# Altium schematic symbol library kmilo17pet-PIC16_Part2.SchLib: 1569 symbols (part 17 of 56)
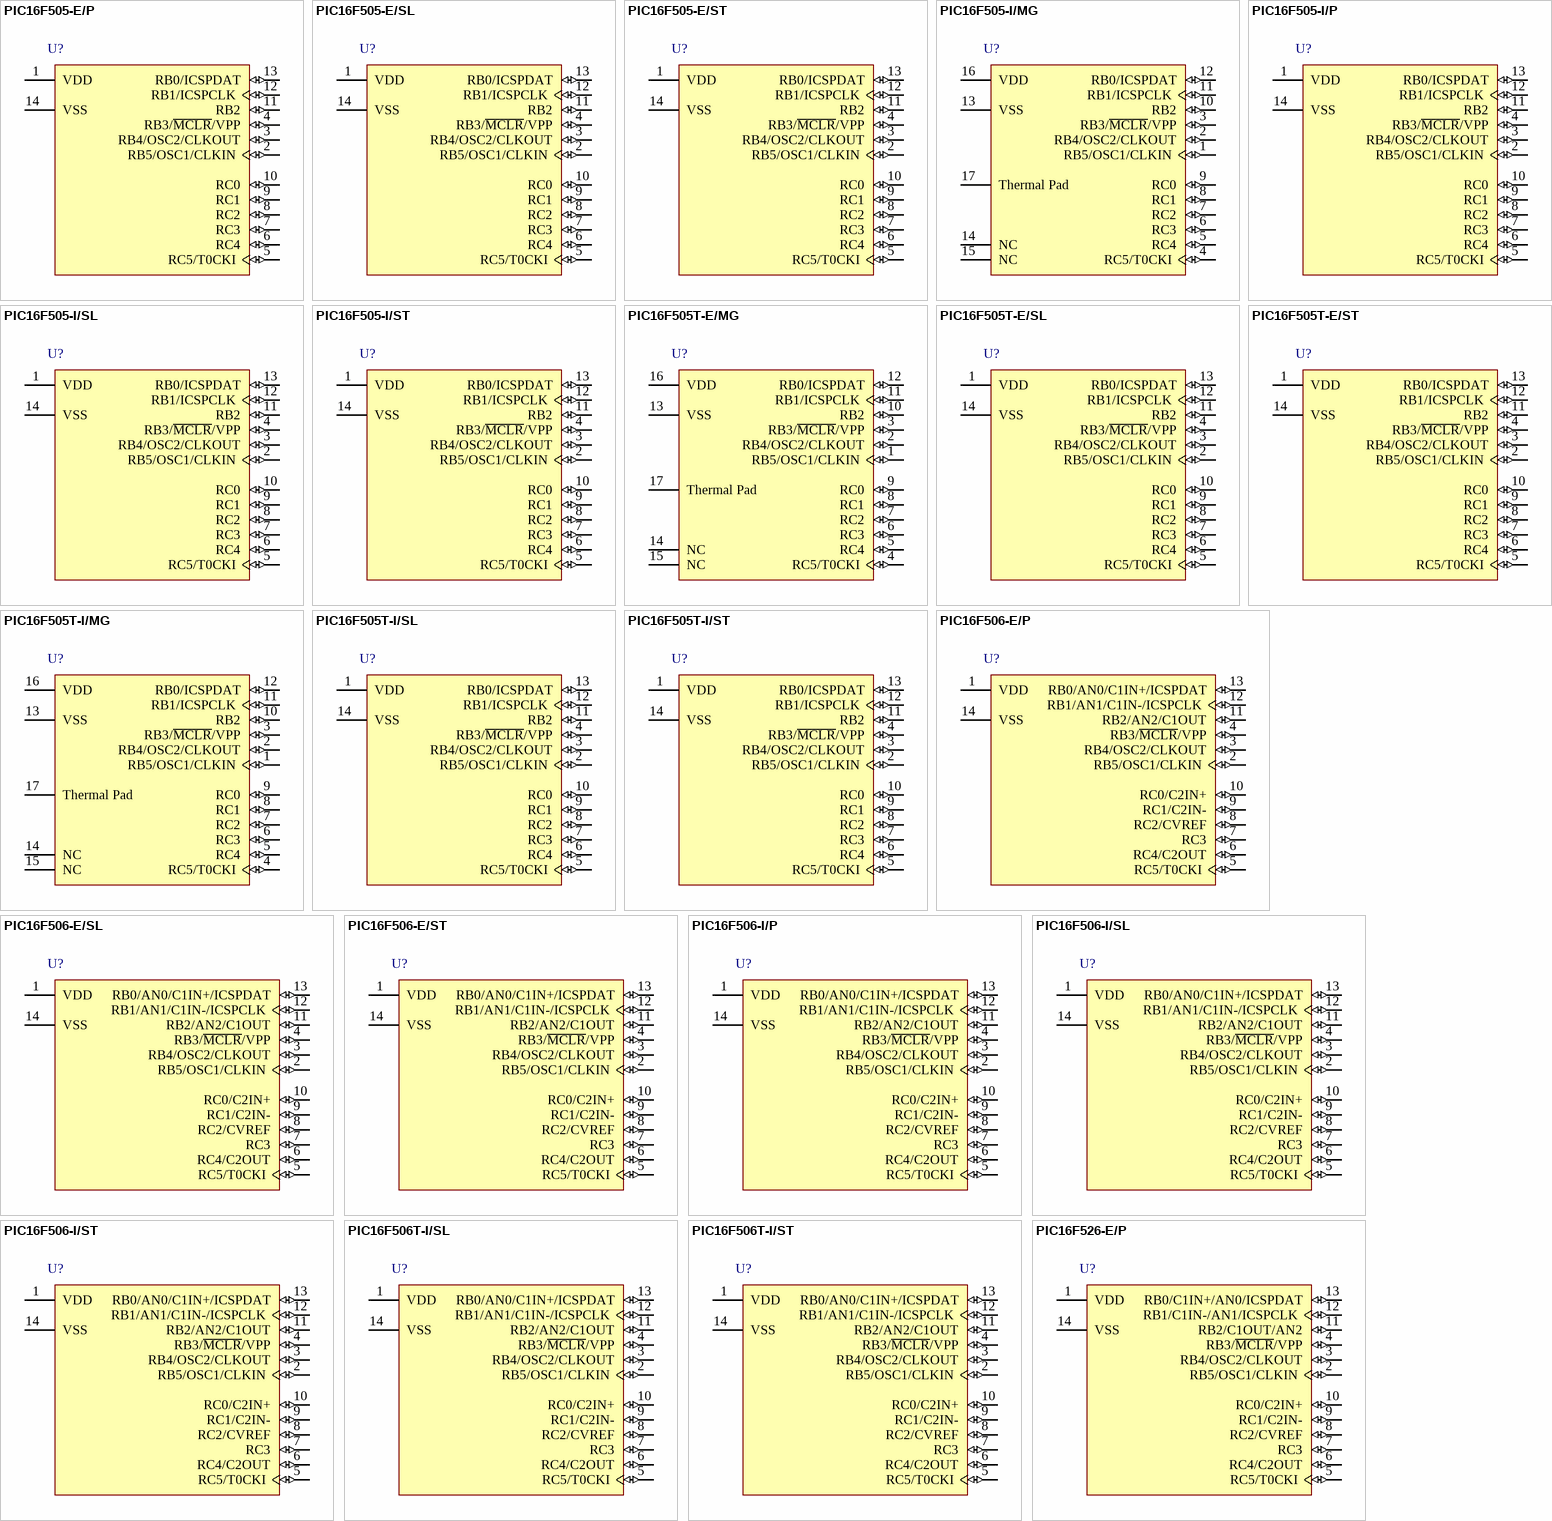
[diagram p141: symbols PIC16F505-E/P to PIC16F526-E/P]

## PIC16F505T-E/ST
designator U?
8-Bit Flash Microcontroller, 1K (x12-Bit words) Program Memory, 72 Bytes Data Memory, 11 I/O pins, 14-Pin TSSOP, Standard VDD Range, Extended Temperature, Tape and Reel; Manufacturer: Microchip; PartNumber: PIC16F505T-E/ST; DatasheetVersion: revE, Aug-2009; PackageVersion: revBB, Aug-2009; PackageReference: TSSOP-ST14; PackageDescription: 14-Lead Plastic Thin Shrink Small Outline (ST) - 4.4mm Body [TSSOP]; ComponentLink1Description: Manufacturer URL; ComponentLink1URL: http://www.microchip.com/; ComponentLink2Description: Datasheet; ComponentLink2URL: http://ww1.microchip.com/downloads/en/DeviceDoc/41236D.pdf; ComponentLink3Description: Package Specification; ComponentLink3URL: http://www.microchip.com/stellent/groups/techpub_sg/documents/packagingspec/en012702.pdf
footprint TSSOP-ST14_N (TSOP, 14-Leads, Body 5x4.4mm, Pitch 0.65mm, IPC Medium Density)
footprint TSSOP-ST14_L (TSOP, 14-Leads, Body 5x4.4mm, Pitch 0.65mm, IPC High Density)
footprint TSSOP-ST14_M (TSOP, 14-Leads, Body 5x4.4mm, Pitch 0.65mm, IPC Low Density)
pins: 1 VDD (power), 2 RB5/OSC1/CLKIN (io), 3 RB4/OSC2/CLKOUT (io), 4 RB3/~{MCLR}/VPP (io), 5 RC5/T0CKI (io), 6 RC4 (io), 7 RC3 (io), 8 RC2 (io), 9 RC1 (io), 10 RC0 (io), 11 RB2 (io), 12 RB1/ICSPCLK (io), 13 RB0/ICSPDAT (io), 14 VSS (power)

## PIC16F505T-I/MG
designator U?
8-Bit Flash Microcontroller, 1K (x12-Bit words) Program Memory, 72 Bytes Data Memory, 11 I/O pins, 14-Pin SOIC, Standard VDD Range, Industrial Temperature, Tape and Reel; Manufacturer: Microchip; PartNumber: PIC16F505T-I/MG; DatasheetVersion: revE, Aug-2009; PackageVersion: revBB, Aug-2009; PackageReference: QFN-MG16; PackageDescription: 16-Lead Plastic Quad Flat, No Lead Package (MG) - 3x3x0.9 mm Body [QFN]; Supplier 1: Digi-Key; Supplier Part Number 1: PIC16F505T-I/MG-ND; Supplier 2: Mouser; Supplier Part Number 2: 579-PIC16F505T-I/MG; ComponentLink1Description: Manufacturer URL; ComponentLink1URL: http://www.microchip.com/; ComponentLink2Description: Datasheet; ComponentLink2URL: http://ww1.microchip.com/downloads/en/DeviceDoc/41236E.pdf; ComponentLink3Description: Package Specification; ComponentLink3URL: http://www.microchip.com/stellent/groups/techpub_sg/documents/packagingspec/en012702.pdf
footprint QFN-MG16_N (QFN, 16-Leads, Body 3x3mm, Pitch 0.5mm, Thermal Pad 1.5x1.5mm, IPC Medium Density)
footprint QFN-MG16_L (QFN, 16-Leads, Body 3x3mm, Pitch 0.5mm, Thermal Pad 1.5x1.5mm, IPC High Density)
footprint QFN-MG16_M (QFN, 16-Leads, Body 3x3mm, Pitch 0.5mm, Thermal Pad 1.5x1.5mm, IPC Low Density)
pins: 1 RB5/OSC1/CLKIN (io), 2 RB4/OSC2/CLKOUT (io), 3 RB3/~{MCLR}/VPP (io), 4 RC5/T0CKI (io), 5 RC4 (io), 6 RC3 (io), 7 RC2 (io), 8 RC1 (io), 9 RC0 (io), 10 RB2 (io), 11 RB1/ICSPCLK (io), 12 RB0/ICSPDAT (io), 13 VSS (power), 14 NC, 15 NC, 16 VDD (power), 17 Thermal Pad

## PIC16F505T-I/SL
designator U?
8-Bit Flash Microcontroller, 1K (x12-Bit words) Program Memory, 72 Bytes Data Memory, 11 I/O pins, 14-Pin SOIC, Standard VDD Range, Industrial Temperature, Tape and Reel; Manufacturer: Microchip; PartNumber: PIC16F505T-I/SL; DatasheetVersion: revE, Aug-2009; PackageVersion: revBB, Aug-2009; PackageReference: SOIC-SL14; PackageDescription: 14-Lead Plastic Small Outline (SL) - Narrow, 3.90mm Body [SOIC]; Supplier 1: Digi-Key; Supplier Part Number 1: PIC16F505T-I/SLTR-ND; Supplier 2: Newark; Supplier Part Number 2: 89H0454; Supplier 3: Mouser; Supplier Part Number 3: 579-PIC16F505T-I/SL; Code_JEDEC: MS-012-AB; Code_IPC: SOIC127P600-14; ComponentLink1Description: Manufacturer URL; ComponentLink1URL: http://www.microchip.com/; ComponentLink2Description: Datasheet; ComponentLink2URL: http://ww1.microchip.com/downloads/en/DeviceDoc/41236D.pdf; ComponentLink3Description: Package Specification; ComponentLink3URL: http://www.microchip.com/stellent/groups/techpub_sg/documents/packagingspec/en012702.pdf
footprint SOIC-SL14_N (SOIC, 14-Leads, Body 8.7x3.9mm, Pitch 1.27mm, IPC Medium Density)
footprint SOIC-SL14_L (SOIC, 14-Leads, Body 8.7x3.9mm, Pitch 1.27mm, IPC High Density)
footprint SOIC-SL14_M (SOIC, 14-Leads, Body 8.7x3.9mm, Pitch 1.27mm, IPC Low Density)
pins: 1 VDD (power), 2 RB5/OSC1/CLKIN (io), 3 RB4/OSC2/CLKOUT (io), 4 RB3/~{MCLR}/VPP (io), 5 RC5/T0CKI (io), 6 RC4 (io), 7 RC3 (io), 8 RC2 (io), 9 RC1 (io), 10 RC0 (io), 11 RB2 (io), 12 RB1/ICSPCLK (io), 13 RB0/ICSPDAT (io), 14 VSS (power)

## PIC16F505T-I/ST
designator U?
8-Bit Flash Microcontroller, 1K (x12-Bit words) Program Memory, 72 Bytes Data Memory, 11 I/O pins, 14-Pin TSSOP, Standard VDD Range, Industrial Temperature, Tape and Reel; Manufacturer: Microchip; PartNumber: PIC16F505T-I/ST; DatasheetVersion: revE, Aug-2009; PackageVersion: revBB, Aug-2009; PackageReference: TSSOP-ST14; PackageDescription: 14-Lead Plastic Thin Shrink Small Outline (ST) - 4.4mm Body [TSSOP]; Supplier 1: Digi-Key; Supplier Part Number 1: PIC16F505T-I/ST-ND; Supplier 2: Mouser; Supplier Part Number 2: 579-PIC16F505T-I/ST; ComponentLink1Description: Manufacturer URL; ComponentLink1URL: http://www.microchip.com/; ComponentLink2Description: Datasheet; ComponentLink2URL: http://ww1.microchip.com/downloads/en/DeviceDoc/41236D.pdf; ComponentLink3Description: Package Specification; ComponentLink3URL: http://www.microchip.com/stellent/groups/techpub_sg/documents/packagingspec/en012702.pdf
footprint TSSOP-ST14_N (TSOP, 14-Leads, Body 5x4.4mm, Pitch 0.65mm, IPC Medium Density)
footprint TSSOP-ST14_L (TSOP, 14-Leads, Body 5x4.4mm, Pitch 0.65mm, IPC High Density)
footprint TSSOP-ST14_M (TSOP, 14-Leads, Body 5x4.4mm, Pitch 0.65mm, IPC Low Density)
pins: 1 VDD (power), 2 RB5/OSC1/CLKIN (io), 3 RB4/OSC2/CLKOUT (io), 4 RB3/~{MCLR}/VPP (io), 5 RC5/T0CKI (io), 6 RC4 (io), 7 RC3 (io), 8 RC2 (io), 9 RC1 (io), 10 RC0 (io), 11 RB2 (io), 12 RB1/ICSPCLK (io), 13 RB0/ICSPDAT (io), 14 VSS (power)

## PIC16F506-E/P
designator U?
8-Bit Flash Microcontroller, 1K (x14-Bit words) Program Memory, 67 Bytes Data Memory, 12 I/O pins, 14-Pin PDIP, Standard VDD Range, Extended Temperature; Manufacturer: Microchip; PartNumber: PIC16F506-E/P; DatasheetVersion: revD, Nov-2007; PackageVersion: revBB, Aug-2009; PackageReference: PDIP300-P14; PackageDescription: 14-Lead Plastic Dual In-Line (P) - 300 mil Body [PDIP]; Supplier 1: Digi-Key; Supplier Part Number 1: PIC16F506-E/P-ND; Supplier 2: Farnell; Supplier Part Number 2: 2318348; Supplier 3: Newark; Supplier Part Number 3: 71J7199; Supplier 4: Mouser; Supplier Part Number 4: 579-PIC16F506-E/P; ComponentLink1Description: Manufacturer URL; ComponentLink1URL: http://www.microchip.com/; ComponentLink2Description: Datasheet; ComponentLink2URL: http://ww1.microchip.com/downloads/en/DeviceDoc/41268D.pdf; ComponentLink3Description: Package Specification; ComponentLink3URL: http://www.microchip.com/stellent/groups/techpub_sg/documents/packagingspec/en012702.pdf
footprint PDIP300-P14 (DIP, 14-Leads, Row Spacing 7.62mm, Pitch 2.54mm, Body 19.2x6.6mm)
pins: 1 VDD (power), 2 RB5/OSC1/CLKIN (io), 3 RB4/OSC2/CLKOUT (io), 4 RB3/~{MCLR}/VPP (io), 5 RC5/T0CKI (io), 6 RC4/C2OUT (io), 7 RC3 (io), 8 RC2/CVREF (io), 9 RC1/C2IN- (io), 10 RC0/C2IN+ (io), 11 RB2/AN2/C1OUT (io), 12 RB1/AN1/C1IN-/ICSPCLK (io), 13 RB0/AN0/C1IN+/ICSPDAT (io), 14 VSS (power)

## PIC16F506-E/SL
designator U?
8-Bit Flash Microcontroller, 1K (x14-Bit words) Program Memory, 67 Bytes Data Memory, 12 I/O pins, 14-Pin SOIC, Standard VDD Range, Extended Temperature; Manufacturer: Microchip; PartNumber: PIC16F506-E/SL; DatasheetVersion: revD, Nov-2007; PackageVersion: revBB, Aug-2009; PackageReference: SOIC-SL14; PackageDescription: 14-Lead Plastic Small Outline (SL) - Narrow, 3.90mm Body [SOIC]; Supplier 1: Digi-Key; Supplier Part Number 1: PIC16F506-E/SL-ND; Supplier 2: Mouser; Supplier Part Number 2: 579-PIC16F506-E/SL; Code_JEDEC: MS-012-AB; Code_IPC: SOIC127P600-14; ComponentLink1Description: Manufacturer URL; ComponentLink1URL: http://www.microchip.com/; ComponentLink2Description: Datasheet; ComponentLink2URL: http://ww1.microchip.com/downloads/en/DeviceDoc/41268D.pdf; ComponentLink3Description: Package Specification; ComponentLink3URL: http://www.microchip.com/stellent/groups/techpub_sg/documents/packagingspec/en012702.pdf
footprint SOIC-SL14_N (SOIC, 14-Leads, Body 8.7x3.9mm, Pitch 1.27mm, IPC Medium Density)
footprint SOIC-SL14_L (SOIC, 14-Leads, Body 8.7x3.9mm, Pitch 1.27mm, IPC High Density)
footprint SOIC-SL14_M (SOIC, 14-Leads, Body 8.7x3.9mm, Pitch 1.27mm, IPC Low Density)
pins: 1 VDD (power), 2 RB5/OSC1/CLKIN (io), 3 RB4/OSC2/CLKOUT (io), 4 RB3/~{MCLR}/VPP (io), 5 RC5/T0CKI (io), 6 RC4/C2OUT (io), 7 RC3 (io), 8 RC2/CVREF (io), 9 RC1/C2IN- (io), 10 RC0/C2IN+ (io), 11 RB2/AN2/C1OUT (io), 12 RB1/AN1/C1IN-/ICSPCLK (io), 13 RB0/AN0/C1IN+/ICSPDAT (io), 14 VSS (power)

## PIC16F506-E/ST
designator U?
8-Bit Flash Microcontroller, 1K (x14-Bit words) Program Memory, 67 Bytes Data Memory, 12 I/O pins, 14-Pin TSSOP, Standard VDD Range, Extended Temperature; Manufacturer: Microchip; PartNumber: PIC16F506-E/ST; DatasheetVersion: revD, Nov-2007; PackageVersion: revBB, Aug-2009; PackageReference: TSSOP-ST14; PackageDescription: 14-Lead Plastic Thin Shrink Small Outline (ST) - 4.4mm Body [TSSOP]; Supplier 1: Digi-Key; Supplier Part Number 1: PIC16F506-E/ST-ND; Supplier 2: Mouser; Supplier Part Number 2: 579-PIC16F506-E/ST; ComponentLink1Description: Manufacturer URL; ComponentLink1URL: http://www.microchip.com/; ComponentLink2Description: Datasheet; ComponentLink2URL: http://ww1.microchip.com/downloads/en/DeviceDoc/41268D.pdf; ComponentLink3Description: Package Specification; ComponentLink3URL: http://www.microchip.com/stellent/groups/techpub_sg/documents/packagingspec/en012702.pdf
footprint TSSOP-ST14_N (TSOP, 14-Leads, Body 5x4.4mm, Pitch 0.65mm, IPC Medium Density)
footprint TSSOP-ST14_L (TSOP, 14-Leads, Body 5x4.4mm, Pitch 0.65mm, IPC High Density)
footprint TSSOP-ST14_M (TSOP, 14-Leads, Body 5x4.4mm, Pitch 0.65mm, IPC Low Density)
pins: 1 VDD (power), 2 RB5/OSC1/CLKIN (io), 3 RB4/OSC2/CLKOUT (io), 4 RB3/~{MCLR}/VPP (io), 5 RC5/T0CKI (io), 6 RC4/C2OUT (io), 7 RC3 (io), 8 RC2/CVREF (io), 9 RC1/C2IN- (io), 10 RC0/C2IN+ (io), 11 RB2/AN2/C1OUT (io), 12 RB1/AN1/C1IN-/ICSPCLK (io), 13 RB0/AN0/C1IN+/ICSPDAT (io), 14 VSS (power)

## PIC16F506-I/P
designator U?
8-Bit Flash Microcontroller, 1K (x14-Bit words) Program Memory, 67 Bytes Data Memory, 12 I/O pins, 14-Pin PDIP, Standard VDD Range, Industrial Temperature; Manufacturer: Microchip; PartNumber: PIC16F506-I/P; DatasheetVersion: revD, Nov-2007; PackageVersion: revBB, Aug-2009; PackageReference: PDIP300-P14; PackageDescription: 14-Lead Plastic Dual In-Line (P) - 300 mil Body [PDIP]; Supplier 1: Digi-Key; Supplier Part Number 1: PIC16F506-I/P-ND; Supplier 2: Farnell; Supplier Part Number 2: 1332195; Supplier 3: Newark; Supplier Part Number 3: 71J7202; Supplier 4: Mouser; Supplier Part Number 4: 579-PIC16F506-I/P; ComponentLink1Description: Manufacturer URL; ComponentLink1URL: http://www.microchip.com/; ComponentLink2Description: Datasheet; ComponentLink2URL: http://ww1.microchip.com/downloads/en/DeviceDoc/41268D.pdf; ComponentLink3Description: Package Specification; ComponentLink3URL: http://www.microchip.com/stellent/groups/techpub_sg/documents/packagingspec/en012702.pdf
footprint PDIP300-P14 (DIP, 14-Leads, Row Spacing 7.62mm, Pitch 2.54mm, Body 19.2x6.6mm)
pins: 1 VDD (power), 2 RB5/OSC1/CLKIN (io), 3 RB4/OSC2/CLKOUT (io), 4 RB3/~{MCLR}/VPP (io), 5 RC5/T0CKI (io), 6 RC4/C2OUT (io), 7 RC3 (io), 8 RC2/CVREF (io), 9 RC1/C2IN- (io), 10 RC0/C2IN+ (io), 11 RB2/AN2/C1OUT (io), 12 RB1/AN1/C1IN-/ICSPCLK (io), 13 RB0/AN0/C1IN+/ICSPDAT (io), 14 VSS (power)

## PIC16F506-I/SL
designator U?
8-Bit Flash Microcontroller, 1K (x14-Bit words) Program Memory, 67 Bytes Data Memory, 12 I/O pins, 14-Pin SOIC, Standard VDD Range, Industrial Temperature; Manufacturer: Microchip; PartNumber: PIC16F506-I/SL; DatasheetVersion: revD, Nov-2007; PackageVersion: revBB, Aug-2009; PackageReference: SOIC-SL14; PackageDescription: 14-Lead Plastic Small Outline (SL) - Narrow, 3.90mm Body [SOIC]; Supplier 1: Digi-Key; Supplier Part Number 1: PIC16F506-I/SL-ND; Supplier 2: Farnell; Supplier Part Number 2: 1332196; Supplier 3: Newark; Supplier Part Number 3: 34M7976; Supplier 4: Newark; Supplier Part Number 4: 71J7203; Supplier 5: Mouser; Supplier Part Number 5: 579-PIC16F506-I/SL; Code_JEDEC: MS-012-AB; Code_IPC: SOIC127P600-14; ComponentLink1Description: Manufacturer URL; ComponentLink1URL: http://www.microchip.com/; ComponentLink2Description: Datasheet; ComponentLink2URL: http://ww1.microchip.com/downloads/en/DeviceDoc/41268D.pdf; ComponentLink3Description: Package Specification; ComponentLink3URL: http://www.microchip.com/stellent/groups/techpub_sg/documents/packagingspec/en012702.pdf
footprint SOIC-SL14_N (SOIC, 14-Leads, Body 8.7x3.9mm, Pitch 1.27mm, IPC Medium Density)
footprint SOIC-SL14_L (SOIC, 14-Leads, Body 8.7x3.9mm, Pitch 1.27mm, IPC High Density)
footprint SOIC-SL14_M (SOIC, 14-Leads, Body 8.7x3.9mm, Pitch 1.27mm, IPC Low Density)
pins: 1 VDD (power), 2 RB5/OSC1/CLKIN (io), 3 RB4/OSC2/CLKOUT (io), 4 RB3/~{MCLR}/VPP (io), 5 RC5/T0CKI (io), 6 RC4/C2OUT (io), 7 RC3 (io), 8 RC2/CVREF (io), 9 RC1/C2IN- (io), 10 RC0/C2IN+ (io), 11 RB2/AN2/C1OUT (io), 12 RB1/AN1/C1IN-/ICSPCLK (io), 13 RB0/AN0/C1IN+/ICSPDAT (io), 14 VSS (power)

## PIC16F506-I/ST
designator U?
8-Bit Flash Microcontroller, 1K (x14-Bit words) Program Memory, 67 Bytes Data Memory, 12 I/O pins, 14-Pin TSSOP, Standard VDD Range, Industrial Temperature; Manufacturer: Microchip; PartNumber: PIC16F506-I/ST; DatasheetVersion: revD, Nov-2007; PackageVersion: revBB, Aug-2009; PackageReference: TSSOP-ST14; PackageDescription: 14-Lead Plastic Thin Shrink Small Outline (ST) - 4.4mm Body [TSSOP]; Supplier 1: Digi-Key; Supplier Part Number 1: PIC16F506-I/ST-ND; Supplier 2: Farnell; Supplier Part Number 2: 1607933; Supplier 3: Newark; Supplier Part Number 3: 71J7204; Supplier 4: Mouser; Supplier Part Number 4: 579-PIC16F506-I/ST; ComponentLink1Description: Manufacturer URL; ComponentLink1URL: http://www.microchip.com/; ComponentLink2Description: Datasheet; ComponentLink2URL: http://ww1.microchip.com/downloads/en/DeviceDoc/41268D.pdf; ComponentLink3Description: Package Specification; ComponentLink3URL: http://www.microchip.com/stellent/groups/techpub_sg/documents/packagingspec/en012702.pdf
footprint TSSOP-ST14_N (TSOP, 14-Leads, Body 5x4.4mm, Pitch 0.65mm, IPC Medium Density)
footprint TSSOP-ST14_L (TSOP, 14-Leads, Body 5x4.4mm, Pitch 0.65mm, IPC High Density)
footprint TSSOP-ST14_M (TSOP, 14-Leads, Body 5x4.4mm, Pitch 0.65mm, IPC Low Density)
pins: 1 VDD (power), 2 RB5/OSC1/CLKIN (io), 3 RB4/OSC2/CLKOUT (io), 4 RB3/~{MCLR}/VPP (io), 5 RC5/T0CKI (io), 6 RC4/C2OUT (io), 7 RC3 (io), 8 RC2/CVREF (io), 9 RC1/C2IN- (io), 10 RC0/C2IN+ (io), 11 RB2/AN2/C1OUT (io), 12 RB1/AN1/C1IN-/ICSPCLK (io), 13 RB0/AN0/C1IN+/ICSPDAT (io), 14 VSS (power)

## PIC16F506T-I/SL
designator U?
8-Bit Flash Microcontroller, 1K (x14-Bit words) Program Memory, 67 Bytes Data Memory, 12 I/O pins, 14-Pin SOIC, Standard VDD Range, Industrial Temperature, Tape and Reel; Manufacturer: Microchip; PartNumber: PIC16F506T-I/SL; DatasheetVersion: revD, Nov-2007; PackageVersion: revBB, Aug-2009; PackageReference: SOIC-SL14; PackageDescription: 14-Lead Plastic Small Outline (SL) - Narrow, 3.90mm Body [SOIC]; Supplier 1: Digi-Key; Supplier Part Number 1: PIC16F506T-I/SL-ND; Supplier 2: Mouser; Supplier Part Number 2: 579-PIC16F506T-I/SL; Code_JEDEC: MS-012-AB; Code_IPC: SOIC127P600-14; ComponentLink1Description: Manufacturer URL; ComponentLink1URL: http://www.microchip.com/; ComponentLink2Description: Datasheet; ComponentLink2URL: http://ww1.microchip.com/downloads/en/DeviceDoc/41268D.pdf; ComponentLink3Description: Package Specification; ComponentLink3URL: http://www.microchip.com/stellent/groups/techpub_sg/documents/packagingspec/en012702.pdf
footprint SOIC-SL14_N (SOIC, 14-Leads, Body 8.7x3.9mm, Pitch 1.27mm, IPC Medium Density)
footprint SOIC-SL14_L (SOIC, 14-Leads, Body 8.7x3.9mm, Pitch 1.27mm, IPC High Density)
footprint SOIC-SL14_M (SOIC, 14-Leads, Body 8.7x3.9mm, Pitch 1.27mm, IPC Low Density)
pins: 1 VDD (power), 2 RB5/OSC1/CLKIN (io), 3 RB4/OSC2/CLKOUT (io), 4 RB3/~{MCLR}/VPP (io), 5 RC5/T0CKI (io), 6 RC4/C2OUT (io), 7 RC3 (io), 8 RC2/CVREF (io), 9 RC1/C2IN- (io), 10 RC0/C2IN+ (io), 11 RB2/AN2/C1OUT (io), 12 RB1/AN1/C1IN-/ICSPCLK (io), 13 RB0/AN0/C1IN+/ICSPDAT (io), 14 VSS (power)

## PIC16F506T-I/ST
designator U?
8-Bit Flash Microcontroller, 1K (x14-Bit words) Program Memory, 67 Bytes Data Memory, 12 I/O pins, 14-Pin TSSOP, Standard VDD Range, Industrial Temperature, Tape and Reel; Manufacturer: Microchip; PartNumber: PIC16F506T-I/ST; DatasheetVersion: revD, Nov-2007; PackageVersion: revBB, Aug-2009; PackageReference: TSSOP-ST14; PackageDescription: 14-Lead Plastic Thin Shrink Small Outline (ST) - 4.4mm Body [TSSOP]; Supplier 1: Digi-Key; Supplier Part Number 1: PIC16F506T-I/ST-ND; Supplier 2: Mouser; Supplier Part Number 2: 579-PIC16F506T-I/ST; ComponentLink1Description: Manufacturer URL; ComponentLink1URL: http://www.microchip.com/; ComponentLink2Description: Datasheet; ComponentLink2URL: http://ww1.microchip.com/downloads/en/DeviceDoc/41268D.pdf; ComponentLink3Description: Package Specification; ComponentLink3URL: http://www.microchip.com/stellent/groups/techpub_sg/documents/packagingspec/en012702.pdf
footprint TSSOP-ST14_N (TSOP, 14-Leads, Body 5x4.4mm, Pitch 0.65mm, IPC Medium Density)
footprint TSSOP-ST14_L (TSOP, 14-Leads, Body 5x4.4mm, Pitch 0.65mm, IPC High Density)
footprint TSSOP-ST14_M (TSOP, 14-Leads, Body 5x4.4mm, Pitch 0.65mm, IPC Low Density)
pins: 1 VDD (power), 2 RB5/OSC1/CLKIN (io), 3 RB4/OSC2/CLKOUT (io), 4 RB3/~{MCLR}/VPP (io), 5 RC5/T0CKI (io), 6 RC4/C2OUT (io), 7 RC3 (io), 8 RC2/CVREF (io), 9 RC1/C2IN- (io), 10 RC0/C2IN+ (io), 11 RB2/AN2/C1OUT (io), 12 RB1/AN1/C1IN-/ICSPCLK (io), 13 RB0/AN0/C1IN+/ICSPDAT (io), 14 VSS (power)

## PIC16F526-E/P
designator U?
8-Bit Flash Microcontroller, 1K (x12-Bit words) Program Memory, 131 Bytes Data Memory, 11 I/O pins, 14-Pin PDIP, Standard VDD Range, Extended Temperature; Manufacturer: Microchip; PartNumber: PIC16F526-E/P; DatasheetVersion: revC, Jul-2009; PackageVersion: revBB, Aug-2009; PackageReference: PDIP300-P14; PackageDescription: 14-Lead Plastic Dual In-Line (P) - 300 mil Body [PDIP]; Supplier 1: Digi-Key; Supplier Part Number 1: PIC16F526-E/P-ND; Supplier 2: Farnell; Supplier Part Number 2: 1847216; Supplier 3: Newark; Supplier Part Number 3: 40M1392; Supplier 4: Mouser; Supplier Part Number 4: 579-PIC16F526-E/P; ComponentLink1Description: Manufacturer URL; ComponentLink1URL: http://www.microchip.com/; ComponentLink2Description: Datasheet; ComponentLink2URL: http://ww1.microchip.com/downloads/en/DeviceDoc/41326C.pdf; ComponentLink3Description: Package Specification; ComponentLink3URL: http://www.microchip.com/stellent/groups/techpub_sg/documents/packagingspec/en012702.pdf
footprint PDIP300-P14 (DIP, 14-Leads, Row Spacing 7.62mm, Pitch 2.54mm, Body 19.2x6.6mm)
pins: 1 VDD (power), 2 RB5/OSC1/CLKIN (io), 3 RB4/OSC2/CLKOUT (io), 4 RB3/~{MCLR}/VPP (io), 5 RC5/T0CKI (io), 6 RC4/C2OUT (io), 7 RC3 (io), 8 RC2/CVREF (io), 9 RC1/C2IN- (io), 10 RC0/C2IN+ (io), 11 RB2/C1OUT/AN2 (io), 12 RB1/C1IN-/AN1/ICSPCLK (io), 13 RB0/C1IN+/AN0/ICSPDAT (io), 14 VSS (power)

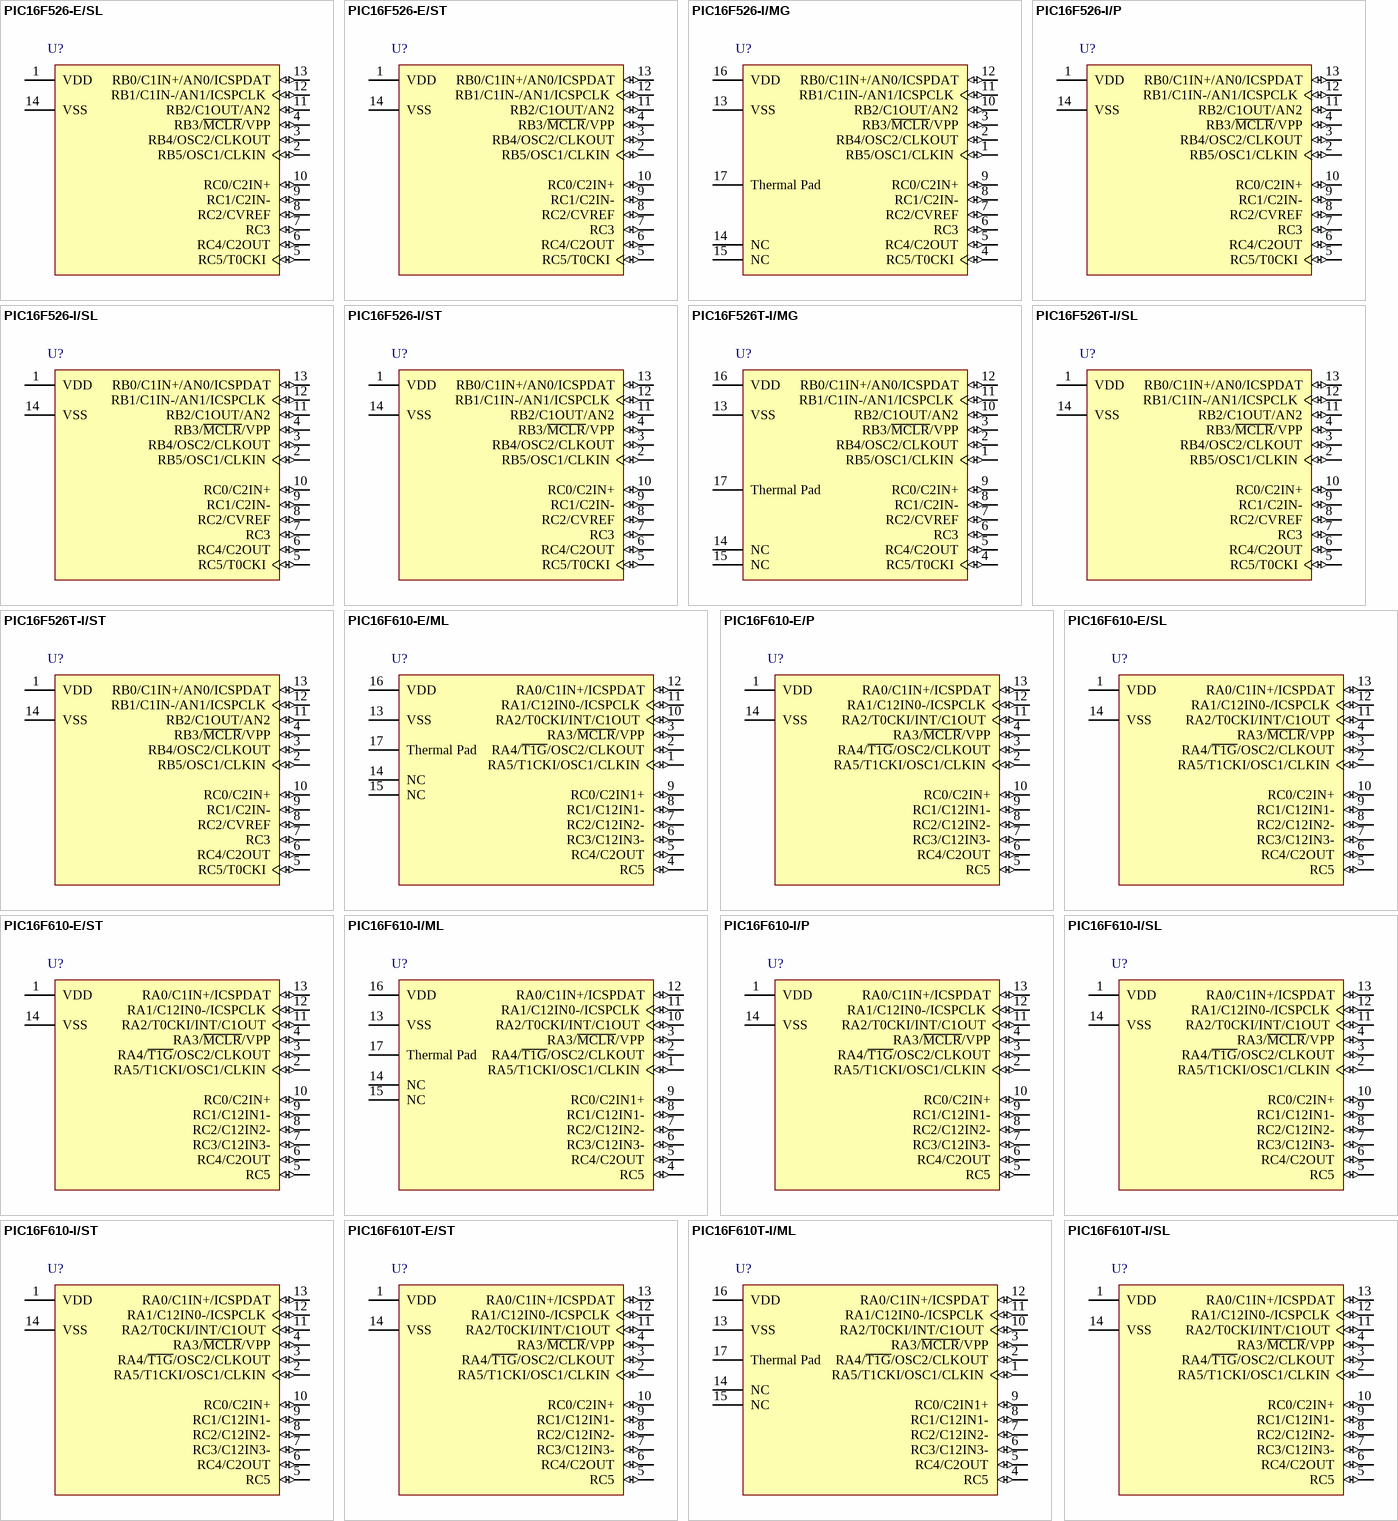
[diagram p33: symbols PIC16F526-E/SL to PIC16F610T-I/SL]

## PIC16F526-E/SL
designator U?
8-Bit Flash Microcontroller, 1K (x12-Bit words) Program Memory, 131 Bytes Data Memory, 11 I/O pins, 14-Pin SOIC, Standard VDD Range, Extended Temperature; Manufacturer: Microchip; PartNumber: PIC16F526-E/SL; DatasheetVersion: revC, Jul-2009; PackageVersion: revBB, Aug-2009; PackageReference: SOIC-SL14; PackageDescription: 14-Lead Plastic Small Outline (SL) - Narrow, 3.90mm Body [SOIC]; Supplier 1: Digi-Key; Supplier Part Number 1: PIC16F526-E/SL-ND; Supplier 2: Farnell; Supplier Part Number 2: 1818529; Supplier 3: Newark; Supplier Part Number 3: 40M1393; Supplier 4: Mouser; Supplier Part Number 4: 579-PIC16F526-E/SL; Code_JEDEC: MS-012-AB; Code_IPC: SOIC127P600-14; ComponentLink1Description: Manufacturer URL; ComponentLink1URL: http://www.microchip.com/; ComponentLink2Description: Datasheet; ComponentLink2URL: http://ww1.microchip.com/downloads/en/DeviceDoc/41326C.pdf; ComponentLink3Description: Package Specification; ComponentLink3URL: http://www.microchip.com/stellent/groups/techpub_sg/documents/packagingspec/en012702.pdf
footprint SOIC-SL14_N (SOIC, 14-Leads, Body 8.7x3.9mm, Pitch 1.27mm, IPC Medium Density)
footprint SOIC-SL14_L (SOIC, 14-Leads, Body 8.7x3.9mm, Pitch 1.27mm, IPC High Density)
footprint SOIC-SL14_M (SOIC, 14-Leads, Body 8.7x3.9mm, Pitch 1.27mm, IPC Low Density)
pins: 1 VDD (power), 2 RB5/OSC1/CLKIN (io), 3 RB4/OSC2/CLKOUT (io), 4 RB3/~{MCLR}/VPP (io), 5 RC5/T0CKI (io), 6 RC4/C2OUT (io), 7 RC3 (io), 8 RC2/CVREF (io), 9 RC1/C2IN- (io), 10 RC0/C2IN+ (io), 11 RB2/C1OUT/AN2 (io), 12 RB1/C1IN-/AN1/ICSPCLK (io), 13 RB0/C1IN+/AN0/ICSPDAT (io), 14 VSS (power)

## PIC16F526-E/ST
designator U?
8-Bit Flash Microcontroller, 1K (x12-Bit words) Program Memory, 131 Bytes Data Memory, 11 I/O pins, 14-Pin TSSOP, Standard VDD Range, Extended Temperature; Manufacturer: Microchip; PartNumber: PIC16F526-E/ST; DatasheetVersion: revC, Jul-2009; PackageVersion: revBB, Aug-2009; PackageReference: TSSOP-ST14; PackageDescription: 14-Lead Plastic Thin Shrink Small Outline (ST) - 4.4mm Body [TSSOP]; Supplier 1: Digi-Key; Supplier Part Number 1: PIC16F526-E/ST-ND; Supplier 2: Mouser; Supplier Part Number 2: 579-PIC16F526-E/ST; ComponentLink1Description: Manufacturer URL; ComponentLink1URL: http://www.microchip.com/; ComponentLink2Description: Datasheet; ComponentLink2URL: http://ww1.microchip.com/downloads/en/DeviceDoc/41326C.pdf; ComponentLink3Description: Package Specification; ComponentLink3URL: http://www.microchip.com/stellent/groups/techpub_sg/documents/packagingspec/en012702.pdf
footprint TSSOP-ST14_N (TSOP, 14-Leads, Body 5x4.4mm, Pitch 0.65mm, IPC Medium Density)
footprint TSSOP-ST14_L (TSOP, 14-Leads, Body 5x4.4mm, Pitch 0.65mm, IPC High Density)
footprint TSSOP-ST14_M (TSOP, 14-Leads, Body 5x4.4mm, Pitch 0.65mm, IPC Low Density)
pins: 1 VDD (power), 2 RB5/OSC1/CLKIN (io), 3 RB4/OSC2/CLKOUT (io), 4 RB3/~{MCLR}/VPP (io), 5 RC5/T0CKI (io), 6 RC4/C2OUT (io), 7 RC3 (io), 8 RC2/CVREF (io), 9 RC1/C2IN- (io), 10 RC0/C2IN+ (io), 11 RB2/C1OUT/AN2 (io), 12 RB1/C1IN-/AN1/ICSPCLK (io), 13 RB0/C1IN+/AN0/ICSPDAT (io), 14 VSS (power)

## PIC16F526-I/MG
designator U?
8-Bit Flash Microcontroller, 1K (x12-Bit words) Program Memory, 131 Bytes Data Memory, 11 I/O pins, 16-Pin QFN, Standard VDD Range, Industrial Temperature; Manufacturer: Microchip; PartNumber: PIC16F526-I/MG; DatasheetVersion: revC, Jul-2009; PackageVersion: revBB, Aug-2009; PackageReference: QFN-MG16; PackageDescription: 16-Lead Plastic Quad Flat, No Lead Package (MG) - 3x3x0.9 mm Body [QFN]; Supplier 1: Digi-Key; Supplier Part Number 1: PIC16F526-I/MG-ND; Supplier 2: Mouser; Supplier Part Number 2: 579-PIC16F526-I/MG; ComponentLink1Description: Manufacturer URL; ComponentLink1URL: http://www.microchip.com/; ComponentLink2Description: Datasheet; ComponentLink2URL: http://ww1.microchip.com/downloads/en/DeviceDoc/41326C.pdf; ComponentLink3Description: Package Specification; ComponentLink3URL: http://www.microchip.com/stellent/groups/techpub_sg/documents/packagingspec/en012702.pdf
footprint QFN-MG16_N (QFN, 16-Leads, Body 3x3mm, Pitch 0.5mm, Thermal Pad 1.5x1.5mm, IPC Medium Density)
footprint QFN-MG16_L (QFN, 16-Leads, Body 3x3mm, Pitch 0.5mm, Thermal Pad 1.5x1.5mm, IPC High Density)
footprint QFN-MG16_M (QFN, 16-Leads, Body 3x3mm, Pitch 0.5mm, Thermal Pad 1.5x1.5mm, IPC Low Density)
pins: 1 RB5/OSC1/CLKIN (io), 2 RB4/OSC2/CLKOUT (io), 3 RB3/~{MCLR}/VPP (io), 4 RC5/T0CKI (io), 5 RC4/C2OUT (io), 6 RC3 (io), 7 RC2/CVREF (io), 8 RC1/C2IN- (io), 9 RC0/C2IN+ (io), 10 RB2/C1OUT/AN2 (io), 11 RB1/C1IN-/AN1/ICSPCLK (io), 12 RB0/C1IN+/AN0/ICSPDAT (io), 13 VSS (power), 14 NC, 15 NC, 16 VDD (power), 17 Thermal Pad (power)

## PIC16F526-I/P
designator U?
8-Bit Flash Microcontroller, 1K (x12-Bit words) Program Memory, 131 Bytes Data Memory, 11 I/O pins, 14-Pin PDIP, Standard VDD Range, Industrial Temperature; Manufacturer: Microchip; PartNumber: PIC16F526-I/P; DatasheetVersion: revC, Jul-2009; PackageVersion: revBB, Aug-2009; PackageReference: PDIP300-P14; PackageDescription: 14-Lead Plastic Dual In-Line (P) - 300 mil Body [PDIP]; Supplier 1: Digi-Key; Supplier Part Number 1: PIC16F526-I/P-ND; Supplier 2: Farnell; Supplier Part Number 2: 1579579; Supplier 3: Newark; Supplier Part Number 3: 40M1395; Supplier 4: Mouser; Supplier Part Number 4: 579-PIC16F526-I/P; ComponentLink1Description: Manufacturer URL; ComponentLink1URL: http://www.microchip.com/; ComponentLink2Description: Datasheet; ComponentLink2URL: http://ww1.microchip.com/downloads/en/DeviceDoc/41326C.pdf; ComponentLink3Description: Package Specification; ComponentLink3URL: http://www.microchip.com/stellent/groups/techpub_sg/documents/packagingspec/en012702.pdf
footprint PDIP300-P14 (DIP, 14-Leads, Row Spacing 7.62mm, Pitch 2.54mm, Body 19.2x6.6mm)
pins: 1 VDD (power), 2 RB5/OSC1/CLKIN (io), 3 RB4/OSC2/CLKOUT (io), 4 RB3/~{MCLR}/VPP (io), 5 RC5/T0CKI (io), 6 RC4/C2OUT (io), 7 RC3 (io), 8 RC2/CVREF (io), 9 RC1/C2IN- (io), 10 RC0/C2IN+ (io), 11 RB2/C1OUT/AN2 (io), 12 RB1/C1IN-/AN1/ICSPCLK (io), 13 RB0/C1IN+/AN0/ICSPDAT (io), 14 VSS (power)

## PIC16F526-I/SL
designator U?
8-Bit Flash Microcontroller, 1K (x12-Bit words) Program Memory, 131 Bytes Data Memory, 11 I/O pins, 14-Pin SOIC, Standard VDD Range, Industrial Temperature; Manufacturer: Microchip; PartNumber: PIC16F526-I/SL; DatasheetVersion: revC, Jul-2009; PackageVersion: revBB, Aug-2009; PackageReference: SOIC-SL14; PackageDescription: 14-Lead Plastic Small Outline (SL) - Narrow, 3.90mm Body [SOIC]; Supplier 1: Digi-Key; Supplier Part Number 1: PIC16F526-I/SL-ND; Supplier 2: Farnell; Supplier Part Number 2: 1579580; Supplier 3: Newark; Supplier Part Number 3: 40M1396; Supplier 4: Mouser; Supplier Part Number 4: 579-PIC16F526-I/SL; Code_JEDEC: MS-012-AB; Code_IPC: SOIC127P600-14; ComponentLink1Description: Manufacturer URL; ComponentLink1URL: http://www.microchip.com/; ComponentLink2Description: Datasheet; ComponentLink2URL: http://ww1.microchip.com/downloads/en/DeviceDoc/41326C.pdf; ComponentLink3Description: Package Specification; ComponentLink3URL: http://www.microchip.com/stellent/groups/techpub_sg/documents/packagingspec/en012702.pdf
footprint SOIC-SL14_N (SOIC, 14-Leads, Body 8.7x3.9mm, Pitch 1.27mm, IPC Medium Density)
footprint SOIC-SL14_L (SOIC, 14-Leads, Body 8.7x3.9mm, Pitch 1.27mm, IPC High Density)
footprint SOIC-SL14_M (SOIC, 14-Leads, Body 8.7x3.9mm, Pitch 1.27mm, IPC Low Density)
pins: 1 VDD (power), 2 RB5/OSC1/CLKIN (io), 3 RB4/OSC2/CLKOUT (io), 4 RB3/~{MCLR}/VPP (io), 5 RC5/T0CKI (io), 6 RC4/C2OUT (io), 7 RC3 (io), 8 RC2/CVREF (io), 9 RC1/C2IN- (io), 10 RC0/C2IN+ (io), 11 RB2/C1OUT/AN2 (io), 12 RB1/C1IN-/AN1/ICSPCLK (io), 13 RB0/C1IN+/AN0/ICSPDAT (io), 14 VSS (power)

## PIC16F526-I/ST
designator U?
8-Bit Flash Microcontroller, 1K (x12-Bit words) Program Memory, 131 Bytes Data Memory, 11 I/O pins, 14-Pin TSSOP, Standard VDD Range, Industrial Temperature; Manufacturer: Microchip; PartNumber: PIC16F526-I/ST; DatasheetVersion: revC, Jul-2009; PackageVersion: revBB, Aug-2009; PackageReference: TSSOP-ST14; PackageDescription: 14-Lead Plastic Thin Shrink Small Outline (ST) - 4.4mm Body [TSSOP]; Supplier 1: Digi-Key; Supplier Part Number 1: PIC16F526-I/ST-ND; Supplier 2: Mouser; Supplier Part Number 2: 579-PIC16F526-I/ST; ComponentLink1Description: Manufacturer URL; ComponentLink1URL: http://www.microchip.com/; ComponentLink2Description: Datasheet; ComponentLink2URL: http://ww1.microchip.com/downloads/en/DeviceDoc/41326C.pdf; ComponentLink3Description: Package Specification; ComponentLink3URL: http://www.microchip.com/stellent/groups/techpub_sg/documents/packagingspec/en012702.pdf
footprint TSSOP-ST14_N (TSOP, 14-Leads, Body 5x4.4mm, Pitch 0.65mm, IPC Medium Density)
footprint TSSOP-ST14_L (TSOP, 14-Leads, Body 5x4.4mm, Pitch 0.65mm, IPC High Density)
footprint TSSOP-ST14_M (TSOP, 14-Leads, Body 5x4.4mm, Pitch 0.65mm, IPC Low Density)
pins: 1 VDD (power), 2 RB5/OSC1/CLKIN (io), 3 RB4/OSC2/CLKOUT (io), 4 RB3/~{MCLR}/VPP (io), 5 RC5/T0CKI (io), 6 RC4/C2OUT (io), 7 RC3 (io), 8 RC2/CVREF (io), 9 RC1/C2IN- (io), 10 RC0/C2IN+ (io), 11 RB2/C1OUT/AN2 (io), 12 RB1/C1IN-/AN1/ICSPCLK (io), 13 RB0/C1IN+/AN0/ICSPDAT (io), 14 VSS (power)

## PIC16F526T-I/MG
designator U?
8-Bit Flash Microcontroller, 1K (x12-Bit words) Program Memory, 131 Bytes Data Memory, 11 I/O pins, 16-Pin QFN, Standard VDD Range, Industrial Temperature, Tape and Reel; Manufacturer: Microchip; PartNumber: PIC16F526T-I/MG; DatasheetVersion: revC, Jul-2009; PackageVersion: revBB, Aug-2009; PackageReference: QFN-MG16; PackageDescription: 16-Lead Plastic Quad Flat, No Lead Package (MG) - 3x3x0.9 mm Body [QFN]; Supplier 1: Digi-Key; Supplier Part Number 1: PIC16F526T-I/MG-ND; Supplier 2: Mouser; Supplier Part Number 2: 579-PIC16F526T-I/MG; ComponentLink1Description: Manufacturer URL; ComponentLink1URL: http://www.microchip.com/; ComponentLink2Description: Datasheet; ComponentLink2URL: http://ww1.microchip.com/downloads/en/DeviceDoc/41326C.pdf; ComponentLink3Description: Package Specification; ComponentLink3URL: http://www.microchip.com/stellent/groups/techpub_sg/documents/packagingspec/en012702.pdf
footprint QFN-MG16_N (QFN, 16-Leads, Body 3x3mm, Pitch 0.5mm, Thermal Pad 1.5x1.5mm, IPC Medium Density)
footprint QFN-MG16_L (QFN, 16-Leads, Body 3x3mm, Pitch 0.5mm, Thermal Pad 1.5x1.5mm, IPC High Density)
footprint QFN-MG16_M (QFN, 16-Leads, Body 3x3mm, Pitch 0.5mm, Thermal Pad 1.5x1.5mm, IPC Low Density)
pins: 1 RB5/OSC1/CLKIN (io), 2 RB4/OSC2/CLKOUT (io), 3 RB3/~{MCLR}/VPP (io), 4 RC5/T0CKI (io), 5 RC4/C2OUT (io), 6 RC3 (io), 7 RC2/CVREF (io), 8 RC1/C2IN- (io), 9 RC0/C2IN+ (io), 10 RB2/C1OUT/AN2 (io), 11 RB1/C1IN-/AN1/ICSPCLK (io), 12 RB0/C1IN+/AN0/ICSPDAT (io), 13 VSS (power), 14 NC, 15 NC, 16 VDD (power), 17 Thermal Pad (power)

## PIC16F526T-I/SL
designator U?
8-Bit Flash Microcontroller, 1K (x12-Bit words) Program Memory, 131 Bytes Data Memory, 11 I/O pins, 14-Pin SOIC, Standard VDD Range, Industrial Temperature, Tape and Reel; Manufacturer: Microchip; PartNumber: PIC16F526T-I/SL; DatasheetVersion: revC, Jul-2009; PackageVersion: revBB, Aug-2009; PackageReference: SOIC-SL14; PackageDescription: 14-Lead Plastic Small Outline (SL) - Narrow, 3.90mm Body [SOIC]; Supplier 1: Digi-Key; Supplier Part Number 1: PIC16F526T-I/SLTR-ND; Supplier 2: Mouser; Supplier Part Number 2: 579-PIC16F526T-I/SL; Code_JEDEC: MS-012-AB; Code_IPC: SOIC127P600-14; ComponentLink1Description: Manufacturer URL; ComponentLink1URL: http://www.microchip.com/; ComponentLink2Description: Datasheet; ComponentLink2URL: http://ww1.microchip.com/downloads/en/DeviceDoc/41326C.pdf; ComponentLink3Description: Package Specification; ComponentLink3URL: http://www.microchip.com/stellent/groups/techpub_sg/documents/packagingspec/en012702.pdf
footprint SOIC-SL14_N (SOIC, 14-Leads, Body 8.7x3.9mm, Pitch 1.27mm, IPC Medium Density)
footprint SOIC-SL14_L (SOIC, 14-Leads, Body 8.7x3.9mm, Pitch 1.27mm, IPC High Density)
footprint SOIC-SL14_M (SOIC, 14-Leads, Body 8.7x3.9mm, Pitch 1.27mm, IPC Low Density)
pins: 1 VDD (power), 2 RB5/OSC1/CLKIN (io), 3 RB4/OSC2/CLKOUT (io), 4 RB3/~{MCLR}/VPP (io), 5 RC5/T0CKI (io), 6 RC4/C2OUT (io), 7 RC3 (io), 8 RC2/CVREF (io), 9 RC1/C2IN- (io), 10 RC0/C2IN+ (io), 11 RB2/C1OUT/AN2 (io), 12 RB1/C1IN-/AN1/ICSPCLK (io), 13 RB0/C1IN+/AN0/ICSPDAT (io), 14 VSS (power)

## PIC16F526T-I/ST
designator U?
8-Bit Flash Microcontroller, 1K (x12-Bit words) Program Memory, 131 Bytes Data Memory, 11 I/O pins, 14-Pin TSSOP, Standard VDD Range, Industrial Temperature, Tape and Reel; Manufacturer: Microchip; PartNumber: PIC16F526T-I/ST; DatasheetVersion: revC, Jul-2009; PackageVersion: revBB, Aug-2009; PackageReference: TSSOP-ST14; PackageDescription: 14-Lead Plastic Thin Shrink Small Outline (ST) - 4.4mm Body [TSSOP]; Supplier 1: Digi-Key; Supplier Part Number 1: PIC16F526T-I/STTR-ND; Supplier 2: Mouser; Supplier Part Number 2: 579-PIC16F526T-I/ST; ComponentLink1Description: Manufacturer URL; ComponentLink1URL: http://www.microchip.com/; ComponentLink2Description: Datasheet; ComponentLink2URL: http://ww1.microchip.com/downloads/en/DeviceDoc/41326C.pdf; ComponentLink3Description: Package Specification; ComponentLink3URL: http://www.microchip.com/stellent/groups/techpub_sg/documents/packagingspec/en012702.pdf
footprint TSSOP-ST14_N (TSOP, 14-Leads, Body 5x4.4mm, Pitch 0.65mm, IPC Medium Density)
footprint TSSOP-ST14_L (TSOP, 14-Leads, Body 5x4.4mm, Pitch 0.65mm, IPC High Density)
footprint TSSOP-ST14_M (TSOP, 14-Leads, Body 5x4.4mm, Pitch 0.65mm, IPC Low Density)
pins: 1 VDD (power), 2 RB5/OSC1/CLKIN (io), 3 RB4/OSC2/CLKOUT (io), 4 RB3/~{MCLR}/VPP (io), 5 RC5/T0CKI (io), 6 RC4/C2OUT (io), 7 RC3 (io), 8 RC2/CVREF (io), 9 RC1/C2IN- (io), 10 RC0/C2IN+ (io), 11 RB2/C1OUT/AN2 (io), 12 RB1/C1IN-/AN1/ICSPCLK (io), 13 RB0/C1IN+/AN0/ICSPDAT (io), 14 VSS (power)

## PIC16F610-E/ML
designator U?
8-Bit Flash Microcontroller CMOS Microcontroller, 1K (x14-Bit words) Program Memory, 64 Bytes Data Memory, 11 I/O pins, 16-Pin QFN, Standard VDD Range, Extended Temperature; Manufacturer: Microchip; PartNumber: PIC16F610-E/ML; DatasheetVersion: revF, Nov-2009; PackageVersion: revBB, Aug-2009; PackageReference: QFN-ML16; PackageDescription: 16-Lead Plastic Quad Flat, No Lead Package (ML) - 4x4x0.9 mm Body [QFN]; Supplier 1: Digi-Key; Supplier Part Number 1: PIC16F610-E/ML-ND; Supplier 2: Mouser; Supplier Part Number 2: 579-PIC16F610-E/ML; Code_JEDEC: MO-220; Code_IPC: QFN65P400X400-16V2; ComponentLink1Description: Manufacturer URL; ComponentLink1URL: http://www.microchip.com/; ComponentLink2Description: Datasheet; ComponentLink2URL: http://ww1.microchip.com/downloads/en/DeviceDoc/41288F.pdf; ComponentLink3Description: Package Specification; ComponentLink3URL: http://www.microchip.com/stellent/groups/techpub_sg/documents/packagingspec/en012702.pdf
footprint QFN-ML16_N (QFN, 16-Leads, Body 4x4mm, Pitch 0.65mm, Thermal Pad 2.8x2.8mm, IPC Medium Density)
footprint QFN-ML16_L (QFN, 16-Leads, Body 4x4mm, Pitch 0.65mm, Thermal Pad 2.8x2.8mm, IPC High Density)
footprint QFN-ML16_M (QFN, 16-Leads, Body 4x4mm, Pitch 0.65mm, Thermal Pad 2.8x2.8mm, IPC Low Density)
pins: 1 RA5/T1CKI/OSC1/CLKIN (io), 2 RA4/~{T1G}/OSC2/CLKOUT (io), 3 RA3/~{MCLR}/VPP (io), 4 RC5 (io), 5 RC4/C2OUT (io), 6 RC3/C12IN3- (io), 7 RC2/C12IN2- (io), 8 RC1/C12IN1- (io), 9 RC0/C2IN1+ (io), 10 RA2/T0CKI/INT/C1OUT (io), 11 RA1/C12IN0-/ICSPCLK (io), 12 RA0/C1IN+/ICSPDAT (io), 13 VSS (power), 14 NC, 15 NC, 16 VDD (power), 17 Thermal Pad

## PIC16F610-E/P
designator U?
8-Bit Flash Microcontroller CMOS Microcontroller, 1K (x14-Bit words) Program Memory, 64 Bytes Data Memory, 11 I/O pins, 14-Pin PDIP, Standard VDD Range, Extended Temperature; Manufacturer: Microchip; PartNumber: PIC16F610-E/P; DatasheetVersion: revF, Nov-2009; PackageVersion: revBB, Aug-2009; PackageReference: PDIP300-P14; PackageDescription: 14-Lead Plastic Dual In-Line (P) - 300 mil Body [PDIP]; Supplier 1: Digi-Key; Supplier Part Number 1: PIC16F610-E/P-ND; Supplier 2: Mouser; Supplier Part Number 2: 579-PIC16F610-E/P; ComponentLink1Description: Manufacturer URL; ComponentLink1URL: http://www.microchip.com/; ComponentLink2Description: Datasheet; ComponentLink2URL: http://ww1.microchip.com/downloads/en/DeviceDoc/41288F.pdf; ComponentLink3Description: Package Specification; ComponentLink3URL: http://www.microchip.com/stellent/groups/techpub_sg/documents/packagingspec/en012702.pdf
footprint PDIP300-P14 (DIP, 14-Leads, Row Spacing 7.62mm, Pitch 2.54mm, Body 19.2x6.6mm)
pins: 1 VDD (power), 2 RA5/T1CKI/OSC1/CLKIN (io), 3 RA4/~{T1G}/OSC2/CLKOUT (io), 4 RA3/~{MCLR}/VPP (io), 5 RC5 (io), 6 RC4/C2OUT (io), 7 RC3/C12IN3- (io), 8 RC2/C12IN2- (io), 9 RC1/C12IN1- (io), 10 RC0/C2IN+ (io), 11 RA2/T0CKI/INT/C1OUT (io), 12 RA1/C12IN0-/ICSPCLK (io), 13 RA0/C1IN+/ICSPDAT (io), 14 VSS (power)

## PIC16F610-E/SL
designator U?
8-Bit Flash Microcontroller CMOS Microcontroller, 1K (x14-Bit words) Program Memory, 64 Bytes Data Memory, 11 I/O pins, 14-Pin SOIC, Standard VDD Range, Extended Temperature; Manufacturer: Microchip; PartNumber: PIC16F610-E/SL; DatasheetVersion: revF, Nov-2009; PackageVersion: revBB, Aug-2009; PackageReference: SOIC-SL14; PackageDescription: 14-Lead Plastic Small Outline (SL) - Narrow, 3.90mm Body [SOIC]; Supplier 1: Digi-Key; Supplier Part Number 1: PIC16F610-E/SL-ND; Supplier 2: Mouser; Supplier Part Number 2: 579-PIC16F610-E/SL; Code_JEDEC: MS-012-AB; Code_IPC: SOIC127P600-14; ComponentLink1Description: Manufacturer URL; ComponentLink1URL: http://www.microchip.com/; ComponentLink2Description: Datasheet; ComponentLink2URL: http://ww1.microchip.com/downloads/en/DeviceDoc/41288F.pdf; ComponentLink3Description: Package Specification; ComponentLink3URL: http://www.microchip.com/stellent/groups/techpub_sg/documents/packagingspec/en012702.pdf
footprint SOIC-SL14_N (SOIC, 14-Leads, Body 8.7x3.9mm, Pitch 1.27mm, IPC Medium Density)
footprint SOIC-SL14_L (SOIC, 14-Leads, Body 8.7x3.9mm, Pitch 1.27mm, IPC High Density)
footprint SOIC-SL14_M (SOIC, 14-Leads, Body 8.7x3.9mm, Pitch 1.27mm, IPC Low Density)
pins: 1 VDD (power), 2 RA5/T1CKI/OSC1/CLKIN (io), 3 RA4/~{T1G}/OSC2/CLKOUT (io), 4 RA3/~{MCLR}/VPP (io), 5 RC5 (io), 6 RC4/C2OUT (io), 7 RC3/C12IN3- (io), 8 RC2/C12IN2- (io), 9 RC1/C12IN1- (io), 10 RC0/C2IN+ (io), 11 RA2/T0CKI/INT/C1OUT (io), 12 RA1/C12IN0-/ICSPCLK (io), 13 RA0/C1IN+/ICSPDAT (io), 14 VSS (power)

## PIC16F610-E/ST
designator U?
8-Bit Flash Microcontroller CMOS Microcontroller, 1K (x14-Bit words) Program Memory, 64 Bytes Data Memory, 11 I/O pins, 14-Pin TSSOP, Standard VDD Range, Extended Temperature; Manufacturer: Microchip; PartNumber: PIC16F610-E/ST; DatasheetVersion: revF, Nov-2009; PackageVersion: revBB, Aug-2009; PackageReference: TSSOP-ST14; PackageDescription: 14-Lead Plastic Thin Shrink Small Outline (ST) - 4.4mm Body [TSSOP]; Supplier 1: Digi-Key; Supplier Part Number 1: PIC16F610-E/ST-ND; Supplier 2: Mouser; Supplier Part Number 2: 579-PIC16F610-E/ST; ComponentLink1Description: Manufacturer URL; ComponentLink1URL: http://www.microchip.com/; ComponentLink2Description: Datasheet; ComponentLink2URL: http://ww1.microchip.com/downloads/en/DeviceDoc/41288F.pdf; ComponentLink3Description: Package Specification; ComponentLink3URL: http://www.microchip.com/stellent/groups/techpub_sg/documents/packagingspec/en012702.pdf
footprint TSSOP-ST14_N (TSOP, 14-Leads, Body 5x4.4mm, Pitch 0.65mm, IPC Medium Density)
footprint TSSOP-ST14_L (TSOP, 14-Leads, Body 5x4.4mm, Pitch 0.65mm, IPC High Density)
footprint TSSOP-ST14_M (TSOP, 14-Leads, Body 5x4.4mm, Pitch 0.65mm, IPC Low Density)
pins: 1 VDD (power), 2 RA5/T1CKI/OSC1/CLKIN (io), 3 RA4/~{T1G}/OSC2/CLKOUT (io), 4 RA3/~{MCLR}/VPP (io), 5 RC5 (io), 6 RC4/C2OUT (io), 7 RC3/C12IN3- (io), 8 RC2/C12IN2- (io), 9 RC1/C12IN1- (io), 10 RC0/C2IN+ (io), 11 RA2/T0CKI/INT/C1OUT (io), 12 RA1/C12IN0-/ICSPCLK (io), 13 RA0/C1IN+/ICSPDAT (io), 14 VSS (power)

## PIC16F610-I/ML
designator U?
8-Bit Flash Microcontroller CMOS Microcontroller, 1K (x14-Bit words) Program Memory, 64 Bytes Data Memory, 11 I/O pins, 16-Pin QFN, Standard VDD Range, Industrial Temperature; Manufacturer: Microchip; PartNumber: PIC16F610-I/ML; DatasheetVersion: revF, Nov-2009; PackageVersion: revBB, Aug-2009; PackageReference: QFN-ML16; PackageDescription: 16-Lead Plastic Quad Flat, No Lead Package (ML) - 4x4x0.9 mm Body [QFN]; Supplier 1: Digi-Key; Supplier Part Number 1: PIC16F610-I/ML-ND; Supplier 2: Farnell; Supplier Part Number 2: 1818500; Supplier 3: Newark; Supplier Part Number 3: 17M0940; Supplier 4: Mouser; Supplier Part Number 4: 579-PIC16F610-I/ML; Code_JEDEC: MO-220; Code_IPC: QFN65P400X400-16V2; ComponentLink1Description: Manufacturer URL; ComponentLink1URL: http://www.microchip.com/; ComponentLink2Description: Datasheet; ComponentLink2URL: http://ww1.microchip.com/downloads/en/DeviceDoc/41288F.pdf; ComponentLink3Description: Package Specification; ComponentLink3URL: http://www.microchip.com/stellent/groups/techpub_sg/documents/packagingspec/en012702.pdf
footprint QFN-ML16_N (QFN, 16-Leads, Body 4x4mm, Pitch 0.65mm, Thermal Pad 2.8x2.8mm, IPC Medium Density)
footprint QFN-ML16_L (QFN, 16-Leads, Body 4x4mm, Pitch 0.65mm, Thermal Pad 2.8x2.8mm, IPC High Density)
footprint QFN-ML16_M (QFN, 16-Leads, Body 4x4mm, Pitch 0.65mm, Thermal Pad 2.8x2.8mm, IPC Low Density)
pins: 1 RA5/T1CKI/OSC1/CLKIN (io), 2 RA4/~{T1G}/OSC2/CLKOUT (io), 3 RA3/~{MCLR}/VPP (io), 4 RC5 (io), 5 RC4/C2OUT (io), 6 RC3/C12IN3- (io), 7 RC2/C12IN2- (io), 8 RC1/C12IN1- (io), 9 RC0/C2IN1+ (io), 10 RA2/T0CKI/INT/C1OUT (io), 11 RA1/C12IN0-/ICSPCLK (io), 12 RA0/C1IN+/ICSPDAT (io), 13 VSS (power), 14 NC, 15 NC, 16 VDD (power), 17 Thermal Pad

## PIC16F610-I/P
designator U?
8-Bit Flash Microcontroller CMOS Microcontroller, 1K (x14-Bit words) Program Memory, 64 Bytes Data Memory, 11 I/O pins, 14-Pin PDIP, Standard VDD Range, Industrial Temperature; Manufacturer: Microchip; PartNumber: PIC16F610-I/P; DatasheetVersion: revF, Nov-2009; PackageVersion: revBB, Aug-2009; PackageReference: PDIP300-P14; PackageDescription: 14-Lead Plastic Dual In-Line (P) - 300 mil Body [PDIP]; Supplier 1: Digi-Key; Supplier Part Number 1: PIC16F610-I/P-ND; Supplier 2: Farnell; Supplier Part Number 2: 1332197; Supplier 3: Newark; Supplier Part Number 3: 17M0941; Supplier 4: Newark; Supplier Part Number 4: 34M7977; Supplier 5: Mouser; Supplier Part Number 5: 579-PIC16F610-I/P; ComponentLink1Description: Manufacturer URL; ComponentLink1URL: http://www.microchip.com/; ComponentLink2Description: Datasheet; ComponentLink2URL: http://ww1.microchip.com/downloads/en/DeviceDoc/41288F.pdf; ComponentLink3Description: Package Specification; ComponentLink3URL: http://www.microchip.com/stellent/groups/techpub_sg/documents/packagingspec/en012702.pdf
footprint PDIP300-P14 (DIP, 14-Leads, Row Spacing 7.62mm, Pitch 2.54mm, Body 19.2x6.6mm)
pins: 1 VDD (power), 2 RA5/T1CKI/OSC1/CLKIN (io), 3 RA4/~{T1G}/OSC2/CLKOUT (io), 4 RA3/~{MCLR}/VPP (io), 5 RC5 (io), 6 RC4/C2OUT (io), 7 RC3/C12IN3- (io), 8 RC2/C12IN2- (io), 9 RC1/C12IN1- (io), 10 RC0/C2IN+ (io), 11 RA2/T0CKI/INT/C1OUT (io), 12 RA1/C12IN0-/ICSPCLK (io), 13 RA0/C1IN+/ICSPDAT (io), 14 VSS (power)

## PIC16F610-I/SL
designator U?
8-Bit Flash Microcontroller CMOS Microcontroller, 1K (x14-Bit words) Program Memory, 64 Bytes Data Memory, 11 I/O pins, 14-Pin SOIC, Standard VDD Range, Industrial Temperature; Manufacturer: Microchip; PartNumber: PIC16F610-I/SL; DatasheetVersion: revF, Nov-2009; PackageVersion: revBB, Aug-2009; PackageReference: SOIC-SL14; PackageDescription: 14-Lead Plastic Small Outline (SL) - Narrow, 3.90mm Body [SOIC]; Supplier 1: Digi-Key; Supplier Part Number 1: PIC16F610-I/SL-ND; Supplier 2: Farnell; Supplier Part Number 2: 1332198; Supplier 3: Newark; Supplier Part Number 3: 17M0942; Supplier 4: Mouser; Supplier Part Number 4: 579-PIC16F610-I/SL; Code_JEDEC: MS-012-AB; Code_IPC: SOIC127P600-14; ComponentLink1Description: Manufacturer URL; ComponentLink1URL: http://www.microchip.com/; ComponentLink2Description: Datasheet; ComponentLink2URL: http://ww1.microchip.com/downloads/en/DeviceDoc/41288F.pdf; ComponentLink3Description: Package Specification; ComponentLink3URL: http://www.microchip.com/stellent/groups/techpub_sg/documents/packagingspec/en012702.pdf
footprint SOIC-SL14_N (SOIC, 14-Leads, Body 8.7x3.9mm, Pitch 1.27mm, IPC Medium Density)
footprint SOIC-SL14_L (SOIC, 14-Leads, Body 8.7x3.9mm, Pitch 1.27mm, IPC High Density)
footprint SOIC-SL14_M (SOIC, 14-Leads, Body 8.7x3.9mm, Pitch 1.27mm, IPC Low Density)
pins: 1 VDD (power), 2 RA5/T1CKI/OSC1/CLKIN (io), 3 RA4/~{T1G}/OSC2/CLKOUT (io), 4 RA3/~{MCLR}/VPP (io), 5 RC5 (io), 6 RC4/C2OUT (io), 7 RC3/C12IN3- (io), 8 RC2/C12IN2- (io), 9 RC1/C12IN1- (io), 10 RC0/C2IN+ (io), 11 RA2/T0CKI/INT/C1OUT (io), 12 RA1/C12IN0-/ICSPCLK (io), 13 RA0/C1IN+/ICSPDAT (io), 14 VSS (power)

## PIC16F610-I/ST
designator U?
8-Bit Flash Microcontroller CMOS Microcontroller, 1K (x14-Bit words) Program Memory, 64 Bytes Data Memory, 11 I/O pins, 14-Pin TSSOP, Standard VDD Range, Industrial Temperature; Manufacturer: Microchip; PartNumber: PIC16F610-I/ST; DatasheetVersion: revF, Nov-2009; PackageVersion: revBB, Aug-2009; PackageReference: TSSOP-ST14; PackageDescription: 14-Lead Plastic Thin Shrink Small Outline (ST) - 4.4mm Body [TSSOP]; Supplier 1: Digi-Key; Supplier Part Number 1: PIC16F610-I/ST-ND; Supplier 2: Farnell; Supplier Part Number 2: 1818501; Supplier 3: Newark; Supplier Part Number 3: 17M0943; Supplier 4: Mouser; Supplier Part Number 4: 579-PIC16F610-I/ST; ComponentLink1Description: Manufacturer URL; ComponentLink1URL: http://www.microchip.com/; ComponentLink2Description: Datasheet; ComponentLink2URL: http://ww1.microchip.com/downloads/en/DeviceDoc/41288F.pdf; ComponentLink3Description: Package Specification; ComponentLink3URL: http://www.microchip.com/stellent/groups/techpub_sg/documents/packagingspec/en012702.pdf
footprint TSSOP-ST14_N (TSOP, 14-Leads, Body 5x4.4mm, Pitch 0.65mm, IPC Medium Density)
footprint TSSOP-ST14_L (TSOP, 14-Leads, Body 5x4.4mm, Pitch 0.65mm, IPC High Density)
footprint TSSOP-ST14_M (TSOP, 14-Leads, Body 5x4.4mm, Pitch 0.65mm, IPC Low Density)
pins: 1 VDD (power), 2 RA5/T1CKI/OSC1/CLKIN (io), 3 RA4/~{T1G}/OSC2/CLKOUT (io), 4 RA3/~{MCLR}/VPP (io), 5 RC5 (io), 6 RC4/C2OUT (io), 7 RC3/C12IN3- (io), 8 RC2/C12IN2- (io), 9 RC1/C12IN1- (io), 10 RC0/C2IN+ (io), 11 RA2/T0CKI/INT/C1OUT (io), 12 RA1/C12IN0-/ICSPCLK (io), 13 RA0/C1IN+/ICSPDAT (io), 14 VSS (power)

## PIC16F610T-E/ST
designator U?
8-Bit Flash Microcontroller CMOS Microcontroller, 1K (x14-Bit words) Program Memory, 64 Bytes Data Memory, 11 I/O pins, 14-Pin TSSOP, Standard VDD Range, Extended Temperature, Tape and Reel; Manufacturer: Microchip; PartNumber: PIC16F610T-E/ST; DatasheetVersion: revF, Nov-2009; PackageVersion: revBB, Aug-2009; PackageReference: TSSOP-ST14; PackageDescription: 14-Lead Plastic Thin Shrink Small Outline (ST) - 4.4mm Body [TSSOP]; ComponentLink1Description: Manufacturer URL; ComponentLink1URL: http://www.microchip.com/; ComponentLink2Description: Datasheet; ComponentLink2URL: http://ww1.microchip.com/downloads/en/DeviceDoc/41288F.pdf; ComponentLink3Description: Package Specification; ComponentLink3URL: http://www.microchip.com/stellent/groups/techpub_sg/documents/packagingspec/en012702.pdf
footprint TSSOP-ST14_N (TSOP, 14-Leads, Body 5x4.4mm, Pitch 0.65mm, IPC Medium Density)
footprint TSSOP-ST14_L (TSOP, 14-Leads, Body 5x4.4mm, Pitch 0.65mm, IPC High Density)
footprint TSSOP-ST14_M (TSOP, 14-Leads, Body 5x4.4mm, Pitch 0.65mm, IPC Low Density)
pins: 1 VDD (power), 2 RA5/T1CKI/OSC1/CLKIN (io), 3 RA4/~{T1G}/OSC2/CLKOUT (io), 4 RA3/~{MCLR}/VPP (io), 5 RC5 (io), 6 RC4/C2OUT (io), 7 RC3/C12IN3- (io), 8 RC2/C12IN2- (io), 9 RC1/C12IN1- (io), 10 RC0/C2IN+ (io), 11 RA2/T0CKI/INT/C1OUT (io), 12 RA1/C12IN0-/ICSPCLK (io), 13 RA0/C1IN+/ICSPDAT (io), 14 VSS (power)

## PIC16F610T-I/ML
designator U?
8-Bit Flash Microcontroller CMOS Microcontroller, 1K (x14-Bit words) Program Memory, 64 Bytes Data Memory, 11 I/O pins, 16-Pin QFN, Standard VDD Range, Industrial Temperature, Tape and Reel; Manufacturer: Microchip; PartNumber: PIC16F610T-I/ML; DatasheetVersion: revF, Nov-2009; PackageVersion: revBB, Aug-2009; PackageReference: QFN-ML16; PackageDescription: 16-Lead Plastic Quad Flat, No Lead Package (ML) - 4x4x0.9 mm Body [QFN]; Supplier 1: Digi-Key; Supplier Part Number 1: PIC16F610T-I/MLTR-ND; Supplier 2: Mouser; Supplier Part Number 2: 579-PIC16F610T-I/ML; Code_JEDEC: MO-220; Code_IPC: QFN65P400X400-16V2; ComponentLink1Description: Manufacturer URL; ComponentLink1URL: http://www.microchip.com/; ComponentLink2Description: Datasheet; ComponentLink2URL: http://ww1.microchip.com/downloads/en/DeviceDoc/41288F.pdf; ComponentLink3Description: Package Specification; ComponentLink3URL: http://www.microchip.com/stellent/groups/techpub_sg/documents/packagingspec/en012702.pdf
footprint QFN-ML16_N (QFN, 16-Leads, Body 4x4mm, Pitch 0.65mm, Thermal Pad 2.8x2.8mm, IPC Medium Density)
footprint QFN-ML16_L (QFN, 16-Leads, Body 4x4mm, Pitch 0.65mm, Thermal Pad 2.8x2.8mm, IPC High Density)
footprint QFN-ML16_M (QFN, 16-Leads, Body 4x4mm, Pitch 0.65mm, Thermal Pad 2.8x2.8mm, IPC Low Density)
pins: 1 RA5/T1CKI/OSC1/CLKIN (io), 2 RA4/~{T1G}/OSC2/CLKOUT (io), 3 RA3/~{MCLR}/VPP (io), 4 RC5 (io), 5 RC4/C2OUT (io), 6 RC3/C12IN3- (io), 7 RC2/C12IN2- (io), 8 RC1/C12IN1- (io), 9 RC0/C2IN1+ (io), 10 RA2/T0CKI/INT/C1OUT (io), 11 RA1/C12IN0-/ICSPCLK (io), 12 RA0/C1IN+/ICSPDAT (io), 13 VSS (power), 14 NC, 15 NC, 16 VDD (power), 17 Thermal Pad